# EAGLE library part JST-PH-6-PIN_HEADER (library JST_Connectors)
6-PIN JST PH Shrouded Header
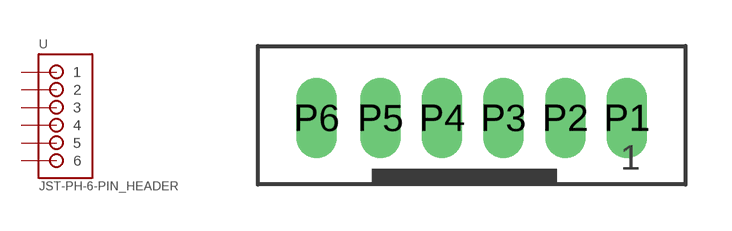
[diagram p0: symbol with the pads of JST_B6B-PH_HEADER; footprint JST_B6B-PH_HEADER]

Designator prefix -

## JST-PH-6-PIN_HEADERJST_B6B-PH_HEADER  [JST_B6B-PH_HEADER]
P1  1
P2  2
P3  3
P4  4
P5  5
P6  6

## Footprint JST_B6B-PH_HEADER (pad centres in mm)
drill 0.8 long: P1 4,0.048; P2 2,0.048; P3 0,0.048; P4 -2,0.048; P5 -4,0.048; P6 -6.076,0.048